# Altium schematic symbol library Schlib2.SchLib: 46 symbols
Pins are listed as number, name and electrical type; pins without a type are passive.

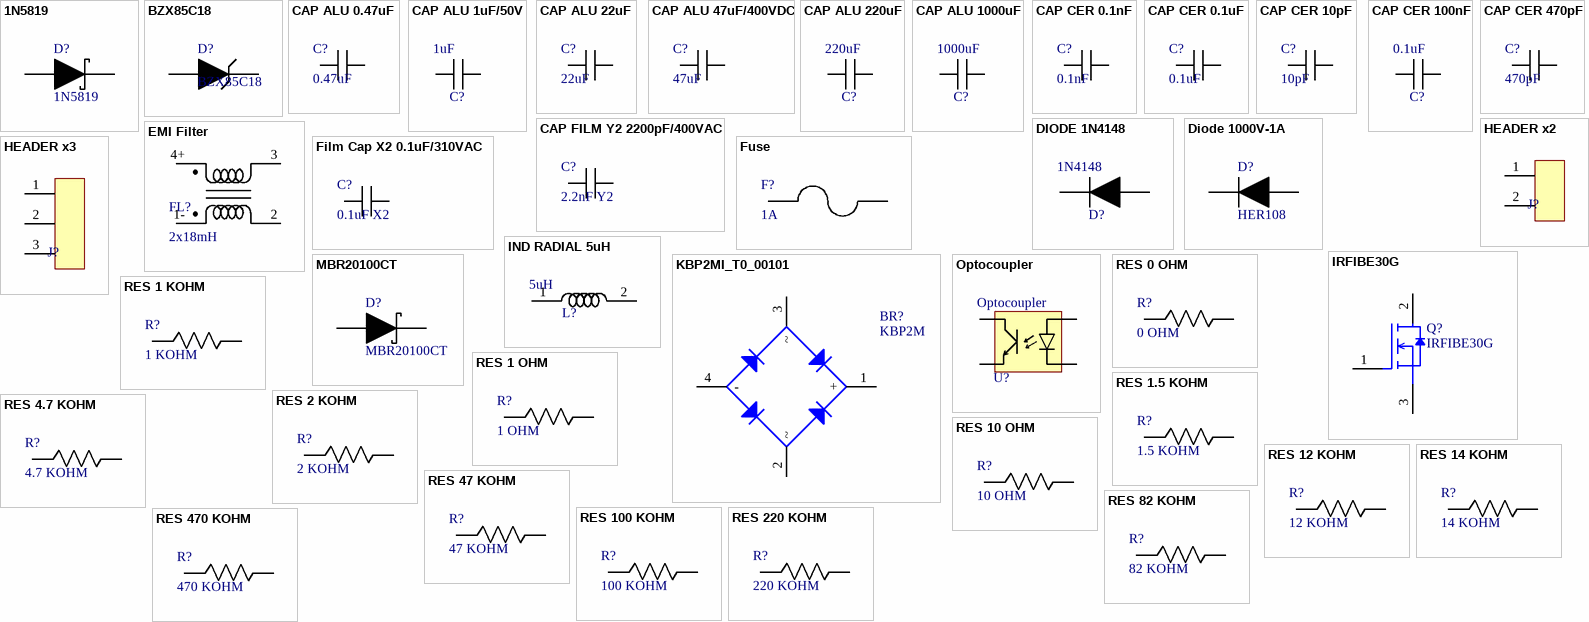
[diagram p0: symbols 1N5819 to RES 470 KOHM]

## 1N5819
designator D?
Rectifier Diode, Schottky, 1 Phase, 1 Element, 1A, 40V V(RRM), Silicon, DO-41; Manufacturer: STMicroelectronics; Supplier 1: Digikey; Manufacturer Part Number: 1N5819; RoHS: Yes; Category: Rectifier Diodes; Stock 1: 24000; Pricing 1: 2000=0,0684, 6000=0,0654, 10000=0,05656, 50000=0,04596, 200000=0,04525 (USD); ComponentLink1URL: https://datasheet.ciiva.com/26338/155460-da-01-en-diode-1n5819-stm-26338798.pdf?src-supplier=Conrad; ComponentLink1Description: https://datasheet.ciiva.com/26338/155460-da-01-en-diode-1n5819-stm-26338798.pdf?src-supplier=Conrad; ComponentLink2URL: https://datasheet.ciiva.com/16303/cd00001625-16303290.pdf?src-supplier=Future+Electronics; ComponentLink2Description: https://datasheet.ciiva.com/16303/cd00001625-16303290.pdf?src-supplier=Future+Electronics; ComponentLink3URL: https://datasheet.ciiva.com/14557/70013816-14557645.pdf?src-supplier=Allied+Electronics; ComponentLink3Description: https://datasheet.ciiva.com/14557/70013816-14557645.pdf?src-supplier=Allied+Electronics; ComponentLink4URL: https://datasheet.ciiva.com/1177/1449529-1177085.pdf?src-supplier=Element14; ComponentLink4Description: https://datasheet.ciiva.com/1177/1449529-1177085.pdf?src-supplier=Element14; ComponentLink5URL: https://datasheet.ciiva.com/915/cd00001625-915555.pdf?src-supplier=Digikey; ComponentLink5Description: https://datasheet.ciiva.com/915/cd00001625-915555.pdf?src-supplier=Digikey; ComponentLink6URL: https://datasheet.ciiva.com/915/cd00001625-915556.pdf?src-supplier=Digikey; ComponentLink6Description: https://datasheet.ciiva.com/915/cd00001625-915556.pdf?src-supplier=Digikey; Supplier Part Number 1: 497-6610-3-ND
footprint Do-41
pins: A, C

## BZX85C18
designator D?
BZX85C Series 1 W 18 V 200 mA Through Hole Zener Diode - DO-41; Manufacturer: ON Semiconductor / Fairchild; Supplier 1: Avnet; Manufacturer Part Number: BZX85C18; RoHS: Yes; Category: Zener Diodes; Stock 1: 196750; Pricing 1: 25000=0,0296, 26000=0,0288, 51000=0,028, 130000=0,0272, 250000=0,0264, 1300000=0,0256, 2500000=0,0248 (USD); ComponentLink1URL: https://datasheet.ciiva.com/25623/0900766b810c0855-25623848.pdf?src-supplier=Rs; ComponentLink1Description: https://datasheet.ciiva.com/25623/0900766b810c0855-25623848.pdf?src-supplier=Rs; ComponentLink2URL: https://datasheet.ciiva.com/15142/getdatasheetpartid-60279-15142246.pdf?src-supplier=Verical; ComponentLink2Description: https://datasheet.ciiva.com/15142/getdatasheetpartid-60279-15142246.pdf?src-supplier=Verical; ComponentLink3URL: https://datasheet.ciiva.com/8059/1751942-8059591.pdf?src-supplier=Element14; ComponentLink3Description: https://datasheet.ciiva.com/8059/1751942-8059591.pdf?src-supplier=Element14; ComponentLink4URL: https://datasheet.ciiva.com/8347/bzx85c9v1-8347335.pdf?src-supplier=Avnet; ComponentLink4Description: https://datasheet.ciiva.com/8347/bzx85c9v1-8347335.pdf?src-supplier=Avnet; Supplier Part Number 1: BZX85C18
footprint Do-41
pins: A, C

## CAP ALU 0.47uF
designator C?, comment 0.47uF
CAP ALU 0.47uF
footprint CAP ALU 1uF
pins: 1 +, 2 -

## CAP ALU 1uF/50V
designator C?, comment 1uF
CAP ALUM 1UF 20% 50V RADIAL WCAP-ATG5 Aluminum Electrolytic Capacitors; Manufacturer: Wurth Electronics; Manufacturer Part Number: 860020672005; ESR (Equivalent Series Resistance): 39.553R; Leakage Current: 3uA; Hole Diameter: 800um; Pitch: 2mm; Supplier 1: Digikey; RoHS: Yes; Category: Aluminum Electrolytic Capacitors; Stock 1: 34223; Pricing 1: 1=0,1, 50=0,089, 100=0,078, 250=0,069, 500=0,06, 1000=0,058 (USD); Length: 11mm; ComponentLink1URL: http://www.farnell.com/datasheets/1879647.pdf?src-supplier=Farnell; ComponentLink1Description: http://www.farnell.com/datasheets/1879647.pdf?src-supplier=Farnell; ComponentLink2URL: http://www.farnell.com/datasheets/1879647.pdf?src-supplier=Element14; ComponentLink2Description: http://www.farnell.com/datasheets/1879647.pdf?src-supplier=Element14; ComponentLink3URL: http://katalog.we-online.de/pbs/datasheet/860020672005.pdf?src-supplier=Digikey; ComponentLink3Description: http://katalog.we-online.de/pbs/datasheet/860020672005.pdf?src-supplier=Digikey; ComponentLink4URL: https://katalog.we-online.de/pbs/datasheet/860020672005.pdf?src-supplier=Digikey; ComponentLink4Description: https://katalog.we-online.de/pbs/datasheet/860020672005.pdf?src-supplier=Digikey; Supplier Part Number 1: 732-8851-1-ND
footprint CAP ALU 1uF
pins: 1 +, 2 -

## CAP ALU 22uF
designator C?, comment 22uF
CAP ALU 22uF
footprint CAP ALU 22uF
pins: 1 +, 2 -

## CAP ALU 47uF/400VDC
designator C?, comment 47uF
CAP ALU 47uF/400VDC
footprint CAP ALU 47UF,400VDC
pins: 1 -, 2 +

## CAP ALU 220uF
designator C?, comment 220uF
Aluminum Electrolytic Capacitor, 220uF 16 V, BT Series 5000h 10 x 12.5mm; Manufacturer: Nichicon; Manufacturer Part Number: UBT1C221MPD8; Supplier 1: Digikey; RoHS: Yes; Category: Aluminum Electrolytic Capacitors; Stock 1: 1881; Pricing 1: 1=0,8, 10=0,56, 50=0,4718, 100=0,3841, 500=0,32008, 2000=0,2527, 4000=0,23586 (USD); ComponentLink1URL: https://datasheet.ciiva.com/25613/0900766b810dc68a-25613514.pdf?src-supplier=Rs; ComponentLink1Description: https://datasheet.ciiva.com/25613/0900766b810dc68a-25613514.pdf?src-supplier=Rs; Supplier Part Number 1: 493-UBT1C221MPD8-ND
footprint CAP ALU 220uF/16v
pins: 1 +, 2 -

## CAP ALU 1000uF
designator C?, comment 1000uF
Cap Aluminum Lytic 1000uF 16V 20% (10 X 16mm) Radial 5mm 1760mA 10000h 105C Bulk; Manufacturer: Rubycon; Manufacturer Part Number: 16ZLH1000MEFC10X16; Supplier 1: Digikey; RoHS: Yes; Category: Aluminum Electrolytic Capacitors; Stock 1: 8548; Pricing 1: 1=0,62, 10=0,389, 50=0,2868, 100=0,2543, 500=0,19906, 1000=0,18203, 3000=0,16421, 5000=0,1536 (USD); ComponentLink1URL: https://datasheet.ciiva.com/16313/e-zlh-16313390.pdf?src-supplier=Future+Electronics; ComponentLink1Description: https://datasheet.ciiva.com/16313/e-zlh-16313390.pdf?src-supplier=Future+Electronics; ComponentLink2URL: https://datasheet.ciiva.com/22732/1910927-22732477.pdf?src-supplier=Element14; ComponentLink2Description: https://datasheet.ciiva.com/22732/1910927-22732477.pdf?src-supplier=Element14; ComponentLink3URL: https://datasheet.ciiva.com/6300/e-zlh-6300460.pdf?src-supplier=Digikey; ComponentLink3Description: https://datasheet.ciiva.com/6300/e-zlh-6300460.pdf?src-supplier=Digikey; ComponentLink4URL: https://datasheet.ciiva.com/11692/e-zlh-11692166.pdf?src-supplier=Avnet; ComponentLink4Description: https://datasheet.ciiva.com/11692/e-zlh-11692166.pdf?src-supplier=Avnet; Supplier Part Number 1: 1189-1147-ND
footprint CAP ALU 1000uF/16V
pins: 1 +, 2 -

## CAP CER 0.1nF
designator C?, comment 0.1nF
CAP CER 0.1nF
footprint CAP CER 100nF
pins: 1 +, 2 -

## CAP CER 0.1uF
designator C?, comment 0.1uF
CAP CER 0.1uF
footprint CAP CER 100nF
pins: 1 +, 2 -

## CAP CER 10pF
designator C?, comment 10pF
CAP CER 10pF
footprint CAP ALU 1uF
pins: 1 +, 2 -

## CAP CER 100nF
designator C?, comment 0.1uF
Cap Ceramic 0.1uF 50V Z5U 20% Radial 5.08mm 85C T/R; Manufacturer: KEMET; Manufacturer Part Number: C322C104M5U5TA7301; Supplier 1: Digikey; RoHS: Yes; Category: Ceramic Capacitors; Stock 1: 1; Pricing 1: 1=0,26, 10=0,166, 50=0,1046, 100=0,0836, 500=0,0604, 1000=0,05343 (USD); ComponentLink1URL: https://datasheet.ciiva.com/39123/f3101-goldmax-39123006.pdf?src-supplier=Onlinecomponents.com; ComponentLink1Description: https://datasheet.ciiva.com/39123/f3101-goldmax-39123006.pdf?src-supplier=Onlinecomponents.com; ComponentLink2URL: https://datasheet.ciiva.com/32430/c052-62-mlcc-series-eng-tds-32430969.pdf?src-supplier=Distrelec; ComponentLink2Description: https://datasheet.ciiva.com/32430/c052-62-mlcc-series-eng-tds-32430969.pdf?src-supplier=Distrelec; ComponentLink3URL: https://datasheet.ciiva.com/6280/f3101-goldmax-6280389.pdf?src-supplier=Digikey; ComponentLink3Description: https://datasheet.ciiva.com/6280/f3101-goldmax-6280389.pdf?src-supplier=Digikey; ComponentLink4URL: https://datasheet.ciiva.com/6280/f3101-goldmax-6280390.pdf?src-supplier=Digikey; ComponentLink4Description: https://datasheet.ciiva.com/6280/f3101-goldmax-6280390.pdf?src-supplier=Digikey; Supplier Part Number 1: 399-9880-1-ND
footprint CAP CER 100nF
pins: 1 +, 2 -

## CAP CER 470pF
designator C?, comment 470pF
CAP CER 470pF
footprint CAP ALU 1uF
pins: 1 +, 2 -

## CAP FILM Y2 2200pF/400VAC
designator C?, comment 2.2nF Y2
CAP FILM 2.2nF 10% 400VAC RADIAL
footprint Y2-RADIAL
pins: 1, 2

## DIODE 1N4148
designator D?, comment 1N4148
1N4148 Series 500 mW 100 V Max Reverse Voltage 200 mA Small Signal Diode -DO-35; Manufacturer: ON Semiconductor / Fairchild; Polarity: 4901Direction; Capacitance: 4pF; Current Rating: 200mA; Voltage Rating (DC): 100V; Forward Current: 300mA; Current: 4A; Reverse Recovery Time: 4ns; Max Reverse Current: 5uA; Supplier 1: Digikey; Manufacturer Part Number: 1N4148; RoHS: Yes; Category: Rectifier Diodes; Stock 1: 222319; Pricing 1: 1=0,1, 10=0,057, 100=0,0306, 500=0,024, 1000=0,01666, 2000=0,01381, 5000=0,01305, 10000=0,01111, 50000=0,00889 (USD); Mount: Through Hole; Case/Package: DO-35; Number of Pins: 2; Min Operating Temperature: -65°C; Max Operating Temperature: 175°C; Packaging: Bulk; Output Current: 200mA; Max Repetitive Reverse Voltage (Vrrm): 100V; Voltage: 100V; Peak Non-Repetitive Surge Current: 4A; Diameter: 1.91mm; Length: 4.56mm; Width: 1.91mm; Height: 1.91mm; Lead Free: 5697LeadFree; RoHS Compliant: Yes; ComponentLink1URL: https://datasheet.ciiva.com/27049/743285-27049708.pdf?src-supplier=Jameco; ComponentLink1Description: https://datasheet.ciiva.com/27049/743285-27049708.pdf?src-supplier=Jameco; ComponentLink2URL: https://datasheet.ciiva.com/1242/1716967-1242233.pdf?src-supplier=Newark; ComponentLink2Description: https://datasheet.ciiva.com/1242/1716967-1242233.pdf?src-supplier=Newark; ComponentLink3URL: https://datasheet.ciiva.com/910/1n914-910546.pdf?src-supplier=Digikey; ComponentLink3Description: https://datasheet.ciiva.com/910/1n914-910546.pdf?src-supplier=Digikey; ComponentLink4URL: https://datasheet.ciiva.com/3304/fdll914b-3304217.pdf?src-supplier=Avnet; ComponentLink4Description: https://datasheet.ciiva.com/3304/fdll914b-3304217.pdf?src-supplier=Avnet; ComponentLink5URL: https://datasheet.ciiva.com/25951/fdll914b-25951516.pdf?; ComponentLink5Description: https://datasheet.ciiva.com/25951/fdll914b-25951516.pdf?; Supplier Part Number 1: 1N4148FS-ND
footprint DO-35
pins: A, C

## Diode 1000V-1A
designator D?, comment HER108
75ns, 1A, 1000V, High Efficient Recovery Rectifier; Manufacturer: Taiwan Semiconductor; Manufacturer Part Number: HER108G A0G; Max Reverse Voltage (DC): 1kV; Supplier 1: Digikey; RoHS: Yes; Stock 1: 4964; Pricing 1: 1=0,49, 10=0,34, 100=0,1719, 500=0,14026, 1000=0,10407 (USD); Mount: Through Hole; Series: -; Packaging: Tape and Reel; Average Rectified Current: 1A; Reverse Recovery Time: 75ns; RoHS Compliant: Yes; Supplier Part Number 1: HER108GA0GCT-ND
footprint Do-41
pins: A, C

## EMI Filter
designator FL?, comment 2x18mH
2x18mH choke
footprint 2x18mH
pins: 1- 1, 2, 3 2, 4+

## Film Cap X2 0.1uF/310VAC
designator C?, comment 0.1uF X2
0.1 µF Film Capacitor 310V Polypropylene (PP), Metallized Radial
footprint X2-Radial
pins: 1, 2

## Fuse
designator F?, comment 1A
1A FUSE
footprint fUSE
pins: 1, 2

## HEADER x2
designator J?  (value not drawn)
footprint HEADER X2
pins: 1, 2

## HEADER x3
designator J?  (value not drawn)
footprint HEADER X3
pins: 1, 2, 3

## IND RADIAL 5uH
designator L?, comment 5uH
Fixed Ind 5UH 20A 5 Mohm Th; Manufacturer: Hammond Manufacturing; Manufacturer Part Number: 1539M10; Supplier 1: Digikey; RoHS: No; Category: Fixed Inductors; Stock 1: 8; Pricing 1: 1=15,7, 10=14,911 (USD); ComponentLink1URL: http://www.mouser.com/ds/2/177/5c0038-44785.pdf?src-supplier=Mouser; ComponentLink1Description: http://www.mouser.com/ds/2/177/5c0038-44785.pdf?src-supplier=Mouser; ComponentLink2URL: http://www.hammondmfg.com/pdf/5c0038.pdf?src-supplier=Digikey; ComponentLink2Description: http://www.hammondmfg.com/pdf/5c0038.pdf?src-supplier=Digikey; Supplier Part Number 1: HM3375-ND
footprint IND-RADIAL
pins: 1, 2

## IRFIBE30G
designator Q?
Single N-Channel 800 V 3 Ohms Flange Mount Power Mosfet - TO-220FP; Manufacturer: Vishay; Manufacturer Part Number: IRFIBE30GPBF; Supplier 1: Digikey; RoHS: Yes; Category: MOSFETs; Stock 1: 1845; Pricing 1: 1=2,71, 50=2,1504, 100=1,8433, 500=1,63846, 1000=1,40293, 2000=1,32101, 5000=1,26738 (USD); ComponentLink1URL: https://datasheet.ciiva.com/8025/irfibe30gpbf-8025460.pdf?src-supplier=Element14; ComponentLink1Description: https://datasheet.ciiva.com/8025/irfibe30gpbf-8025460.pdf?src-supplier=Element14; ComponentLink2URL: https://datasheet.ciiva.com/16226/91184-16226618.pdf?src-supplier=Future+Electronics; ComponentLink2Description: https://datasheet.ciiva.com/16226/91184-16226618.pdf?src-supplier=Future+Electronics; Supplier Part Number 1: IRFIBE30GPBF-ND
footprint TO-220
pins: 1 G, 2 D, 3 S

## KBP2MI_T0_00101
designator BR?, comment KBP2M
Bridge Rectifier Single Phase Standard 1 kV Through Hole KBP; Manufacturer: Pan Jit; Manufacturer Part Number: KBP2MI_T0_00101; Supplier 1: DigiKey; RoHS: No; Stock 1: 2737; Pricing 1: 1=0,47, 35=0,37857, 105=0,28124, 525=0,21958, 1015=0,17848, 2030=0,15955, 5005=0,15144, 10010=0,14062, 50015=0,13388 (USD); Supplier Part Number 1: 3757-KBP2MI_T0_00101-ND
footprint KBP2M
pins: 1 +, 2 ~, 3 ~, 4 -

## MBR20100CT
designator D?
Dual Common-Cathode High-Voltage Schottky Rectifier | DIODE ARRAY SCHOTTKY 100V TO220; Manufacturer: Vishay Semiconductors; Manufacturer Part Number: MBR20100CT-E3/4W; Supplier 1: Digikey; RoHS: Yes; Category: Rectifier Diodes; Stock 1: 3630; Pricing 1: 1=1,98, 50=1,5872, 100=1,306, 500=1,10506, 1000=0,93762, 2000=0,89074, 5000=0,85726, 10000=0,82888 (USD); Reverse Voltage: 100V; ComponentLink1URL: https://datasheet.ciiva.com/16446/mbrb2080-16446902.pdf?src-supplier=Future+Electronics; ComponentLink1Description: https://datasheet.ciiva.com/16446/mbrb2080-16446902.pdf?src-supplier=Future+Electronics; Supplier Part Number 1: MBR20100CT-E3/4WGI-ND
footprint TO-220
pins: 1, 2

## Optocoupler
designator U?
Optocoupler DC-IN 1-CH Darlington DC-OUT 4-Pin PDIP Magazine; Manufacturer: Renesas; Manufacturer Part Number: PS2502-1-A; Supplier 1: Digikey; RoHS: Yes; Category: Optocouplers; Stock 1: 9709; Pricing 1: 1=0,73, 10=0,462, 100=0,3415, 500=0,325 (USD); ComponentLink1URL: https://datasheet.ciiva.com/9218/pn10226ej04v0ds-9218496.pdf?src-supplier=Avnet; ComponentLink1Description: https://datasheet.ciiva.com/9218/pn10226ej04v0ds-9218496.pdf?src-supplier=Avnet; Supplier Part Number 1: 559-1009-ND
footprint 4-DIP
pins: 1, 2, 3, 4

## RES 0 OHM
designator R?, comment 0 OHM
RES 0 OHM
footprint RES 0 OHM
pins: 1, 2

## RES 1 KOHM
designator R?, comment 1 KOHM
RES 1 KOHM
footprint RES
pins: 1, 2

## RES 1 OHM
designator R?, comment 1 OHM
RES 1 OHM
footprint RES
pins: 1, 2

## RES 1.5 KOHM
designator R?, comment 1.5 KOHM
RES 1.5 KOHM
footprint RES
pins: 1, 2

## RES 2 KOHM
designator R?, comment 2 KOHM
RES 2 KOHM
footprint RES
pins: 1, 2

## RES 4.7 KOHM
designator R?, comment 4.7 KOHM
RES 4.7 KOHM
footprint RES
pins: 1, 2

## RES 10 OHM
designator R?, comment 10 OHM
RES 10 OHM
footprint RES
pins: 1, 2

## RES 12 KOHM
designator R?, comment 12 KOHM
RES 12 KOHM
footprint RES
pins: 1, 2

## RES 14 KOHM
designator R?, comment 14 KOHM
RES 14 KOHM
footprint RES
pins: 1, 2

## RES 47 KOHM
designator R?, comment 47 KOHM
RES 47 KOHM
footprint RES
pins: 1, 2

## RES 82 KOHM
designator R?, comment 82 KOHM
RES 82 KOHM
footprint RES
pins: 1, 2

## RES 100 KOHM
designator R?, comment 100 KOHM
RES 100 KOHM
footprint RES
pins: 1, 2

## RES 220 KOHM
designator R?, comment 220 KOHM
RES 220 KOHM
footprint RES
pins: 1, 2

## RES 470 KOHM
designator R?, comment 470 KOHM
RES 470 KOHM
footprint RES
pins: 1, 2

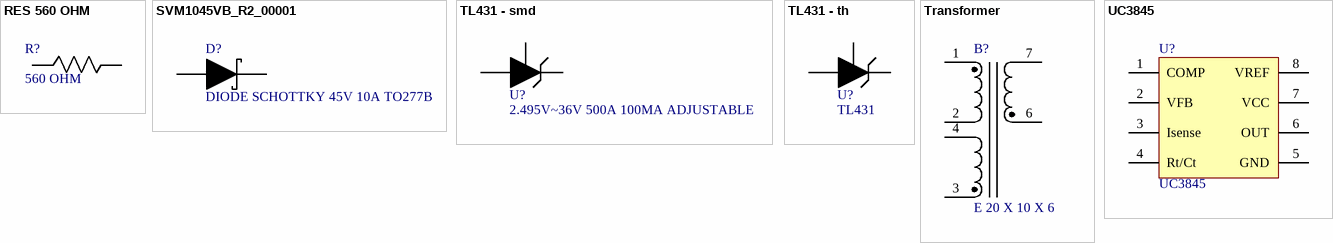
[diagram p1: symbols RES 560 OHM to UC3845]

## RES 560 OHM
designator R?, comment 560 OHM
RES 560 OHM
footprint RES
pins: 1, 2

## SVM1045VB_R2_00001
designator D?, comment DIODE SCHOTTKY 45V 10A TO277B
Schottky Diode 45 V 10A Surface Mount TO-277B; Manufacturer: Pan Jit; Manufacturer Part Number: SVM1045VB_R2_00001; Supplier 1: Digikey; RoHS: Yes; Stock 1: 19585; Pricing 1: 1=0,59, 10=0,508, 100=0,3518, 500=0,29394, 1000=0,25016, 2000=0,2228 (USD); Supplier Part Number 1: 3757-SVM1045VB_R2_00001CT-ND
footprint TO-277B
pins: A, C

## TL431 - smd
designator U?, comment 2.495V~36V 500A 100MA ADJUSTABLE
V-Ref Adjustable 2.495V to 36V 100mA Automotive 3-Pin SOT-23 T/R; Manufacturer: Texas Instruments; Manufacturer Part Number: TL431AIDBZR; Number of Channels: 1; Tolerance: 1%; Cathode Current: 700uA; Reference Type: Shunt,Adjustable; Max Input Voltage: 37V; Temperature Coefficient: 92ppm/°C; Supplier 1: Digikey; RoHS: Yes; Category: Voltage References; Stock 1: 20193; Pricing 1: 1=0,47, 10=0,351, 25=0,3168, 100=0,2188, 250=0,18424, 500=0,14968, 1000=0,11514 (USD); Case/Package: SOT-23; Number of Pins: 3; Min Operating Temperature: -40°C; Max Operating Temperature: 125°C; Packaging: Tape and Reel; Output Voltage: 36V; Package Quantity: 1; Output Current: 100mA; Reference Voltage: 36V; Series: -; Min Input Voltage: 2.495V; Max Output Current: 100mA; Min Output Voltage: 2.495V; Max Output Voltage: 36V; Output Type: Adjustable; Radiation Hardening: No; Lead Free: Lead Free; RoHS Compliant: Yes; Reach SVHC Compliant: No; ComponentLink1URL: https://datasheet.ciiva.com/3235/tl432b-3235600.pdf?src-supplier=Avnet; ComponentLink1Description: https://datasheet.ciiva.com/3235/tl432b-3235600.pdf?src-supplier=Avnet; ComponentLink2URL: https://datasheet.ciiva.com/15148/getdatasheetpartid-171576-15148968.pdf?src-supplier=Verical; ComponentLink2Description: https://datasheet.ciiva.com/15148/getdatasheetpartid-171576-15148968.pdf?src-supplier=Verical; ComponentLink3URL: https://datasheet.ciiva.com/41462/001014548-da-01-en-ic-vref-shunt-prec-tl431aidbzr-sot-3-tid-41462400.pdf?src-supplier=Conrad; ComponentLink3Description: https://datasheet.ciiva.com/41462/001014548-da-01-en-ic-vref-shunt-prec-tl431aidbzr-sot-3-tid-41462400.pdf?src-supplier=Conrad; ComponentLink4URL: https://datasheet.ciiva.com/46397/1887475-46397705.pdf?src-supplier=Element14; ComponentLink4Description: https://datasheet.ciiva.com/46397/1887475-46397705.pdf?src-supplier=Element14; ComponentLink5URL: https://datasheet.ciiva.com/2006/tl431a-2006188.pdf?src-supplier=Digikey; ComponentLink5Description: https://datasheet.ciiva.com/2006/tl431a-2006188.pdf?src-supplier=Digikey; ComponentLink6URL: https://datasheet.ciiva.com/2006/tl431a-2006187.pdf?src-supplier=Digikey; ComponentLink6Description: https://datasheet.ciiva.com/2006/tl431a-2006187.pdf?src-supplier=Digikey; ComponentLink7URL: https://datasheet.ciiva.com/2006/tl431a-2006189.pdf?src-supplier=Digikey; ComponentLink7Description: https://datasheet.ciiva.com/2006/tl431a-2006189.pdf?src-supplier=Digikey; Supplier Part Number 1: 296-17329-1-ND
footprint TL431 - smd - SOT23-3
pins: A, C, R

## TL431 - th
designator U?, comment TL431
Shunt Voltage Reference IC Adjustable 2.495V 36 VV ±1% 100 mA TO-92-3; Manufacturer: Texas Instruments; Manufacturer Part Number: TL431ACLPR; Supplier 1: Digikey; RoHS: Yes; Category: Voltage References; Stock 1: 10278; Pricing 1: 1=0,39, 10=0,289, 25=0,2532, 100=0,1639, 250=0,13568, 500=0,10854, 1000=0,08321 (USD); ComponentLink1URL: https://datasheet.ciiva.com/15149/getdatasheetpartid-238763-15149135.pdf?src-supplier=Verical; ComponentLink1Description: https://datasheet.ciiva.com/15149/getdatasheetpartid-238763-15149135.pdf?src-supplier=Verical; ComponentLink2URL: https://datasheet.ciiva.com/41462/001014545-da-01-en-ic-vref-shunt-pre-tl431aclpr-to-92-3-tid-41462399.pdf?src-supplier=Conrad; ComponentLink2Description: https://datasheet.ciiva.com/41462/001014545-da-01-en-ic-vref-shunt-pre-tl431aclpr-to-92-3-tid-41462399.pdf?src-supplier=Conrad; ComponentLink3URL: https://datasheet.ciiva.com/3235/tl432b-3235595.pdf?src-supplier=Avnet; ComponentLink3Description: https://datasheet.ciiva.com/3235/tl432b-3235595.pdf?src-supplier=Avnet; ComponentLink4URL: https://datasheet.ciiva.com/3236/tl432b-3236342.pdf?src-supplier=Avnet; ComponentLink4Description: https://datasheet.ciiva.com/3236/tl432b-3236342.pdf?src-supplier=Avnet; ComponentLink5URL: https://datasheet.ciiva.com/2006/tl431a-2006226.pdf?src-supplier=Digikey; ComponentLink5Description: https://datasheet.ciiva.com/2006/tl431a-2006226.pdf?src-supplier=Digikey; ComponentLink6URL: https://datasheet.ciiva.com/2006/tl431a-2006227.pdf?src-supplier=Digikey; ComponentLink6Description: https://datasheet.ciiva.com/2006/tl431a-2006227.pdf?src-supplier=Digikey; ComponentLink7URL: https://datasheet.ciiva.com/2006/tl431a-2006228.pdf?src-supplier=Digikey; ComponentLink7Description: https://datasheet.ciiva.com/2006/tl431a-2006228.pdf?src-supplier=Digikey; ComponentLink8URL: https://datasheet.ciiva.com/46397/1887475-46397717.pdf?src-supplier=Element14; ComponentLink8Description: https://datasheet.ciiva.com/46397/1887475-46397717.pdf?src-supplier=Element14; Supplier Part Number 1: 296-TL431ACLPRCT-ND
footprint TL431 - th - TO92-3
pins: A, C, R

## Transformer
designator B?, comment E 20 X 10 X 6
Ferrite Cores & Accessories E20/10/6 N27LP 0.250 MM / B66311G0000X127; Manufacturer: TDK EPCOS; Manufacturer Part Number: B66208-B1110-T1; Supplier 1: Digikey; RoHS: Yes; Stock 1: 6682; Pricing 1: 1=1,27, 10=1,14, 25=0,844, 50=0,802, 100=0,7176, 450=0,63316, 1350=0,58625 (USD); ComponentLink1URL: https://datasheet.ciiva.com/12393/e-25-13-7-525655-12393262.pdf?src-supplier=Mouser; ComponentLink1Description: https://datasheet.ciiva.com/12393/e-25-13-7-525655-12393262.pdf?src-supplier=Mouser; ComponentLink2URL: https://datasheet.ciiva.com/1375/1469926-1375211.pdf?src-supplier=Element14; ComponentLink2Description: https://datasheet.ciiva.com/1375/1469926-1375211.pdf?src-supplier=Element14; Supplier Part Number 1: 495-5372-ND; Supplier 2: Farnell; Category: Uncategorized; Stock 2: 3572; Pricing 2: 1=0,384, 50=0,329, 100=0,274, 250=0,247, 500=0,22, 1470=0,216, 7350=0,215, 14700=0,214 (EUR); ComponentLink3URL: https://datasheet.ciiva.com/22735/1465575-22735656.pdf?src-supplier=Element14; ComponentLink3Description: https://datasheet.ciiva.com/22735/1465575-22735656.pdf?src-supplier=Element14; ComponentLink4URL: https://datasheet.ciiva.com/15162/getdatasheetpartid-476737-15162694.pdf?src-supplier=Verical; ComponentLink4Description: https://datasheet.ciiva.com/15162/getdatasheetpartid-476737-15162694.pdf?src-supplier=Verical; Supplier Part Number 2: 2355087
footprint BOBBIN
pins: 1, 2, 3, 4, 6, 7

## UC3845
designator U?
Boost, Flyback Regulator Positive, Isolation Capable Output Step-Up/Step-Down  DC-DC Controller IC 8-Mini DIP; Manufacturer: STMicroelectronics; Manufacturer Part Number: UC3845BN; Supplier 1: Digikey; RoHS: Yes; Category: Voltage Regulators - Switching; Stock 1: 2211; Pricing 1: 1=0,99, 10=0,889, 50=0,8438, 100=0,6932, 250=0,64796, 500=0,57262, 1000=0,45208, 2500=0,42194, 5000=0,40084 (USD); ComponentLink1URL: https://datasheet.ciiva.com/15108/getdatasheetpartid-31655-15108079.pdf?src-supplier=Verical; ComponentLink1Description: https://datasheet.ciiva.com/15108/getdatasheetpartid-31655-15108079.pdf?src-supplier=Verical; ComponentLink2URL: https://datasheet.ciiva.com/16394/cd00000966-16394470.pdf?src-supplier=Future+Electronics; ComponentLink2Description: https://datasheet.ciiva.com/16394/cd00000966-16394470.pdf?src-supplier=Future+Electronics; ComponentLink3URL: https://datasheet.ciiva.com/4875/cd00000966-4875756.pdf?src-supplier=Mouser; ComponentLink3Description: https://datasheet.ciiva.com/4875/cd00000966-4875756.pdf?src-supplier=Mouser; ComponentLink4URL: https://datasheet.ciiva.com/45260/cd00000966-45260200.pdf?src-supplier=Digikey; ComponentLink4Description: https://datasheet.ciiva.com/45260/cd00000966-45260200.pdf?src-supplier=Digikey; ComponentLink5URL: https://datasheet.ciiva.com/1513/1696818-1513208.pdf?src-supplier=Element14; ComponentLink5Description: https://datasheet.ciiva.com/1513/1696818-1513208.pdf?src-supplier=Element14; Supplier Part Number 1: 497-14808-5-ND
footprint 8-DIP
pins: 1 COMP, 2 VFB, 3 Isense, 4 Rt/Ct, 5 GND, 6 OUT, 7 VCC, 8 VREF